# Altium footprint library QFN_.PcbLib: 16 footprints
Each footprint in its own frame and in the unit in brackets; x right, y up, seen from the top. Pads: shape width x height; smd on the part's side, far side on the other; paste and mask are expansions set on the pad; w line width, h text height; cw(c..) or ccw(c..) is an arc to the next point about the centre after c.
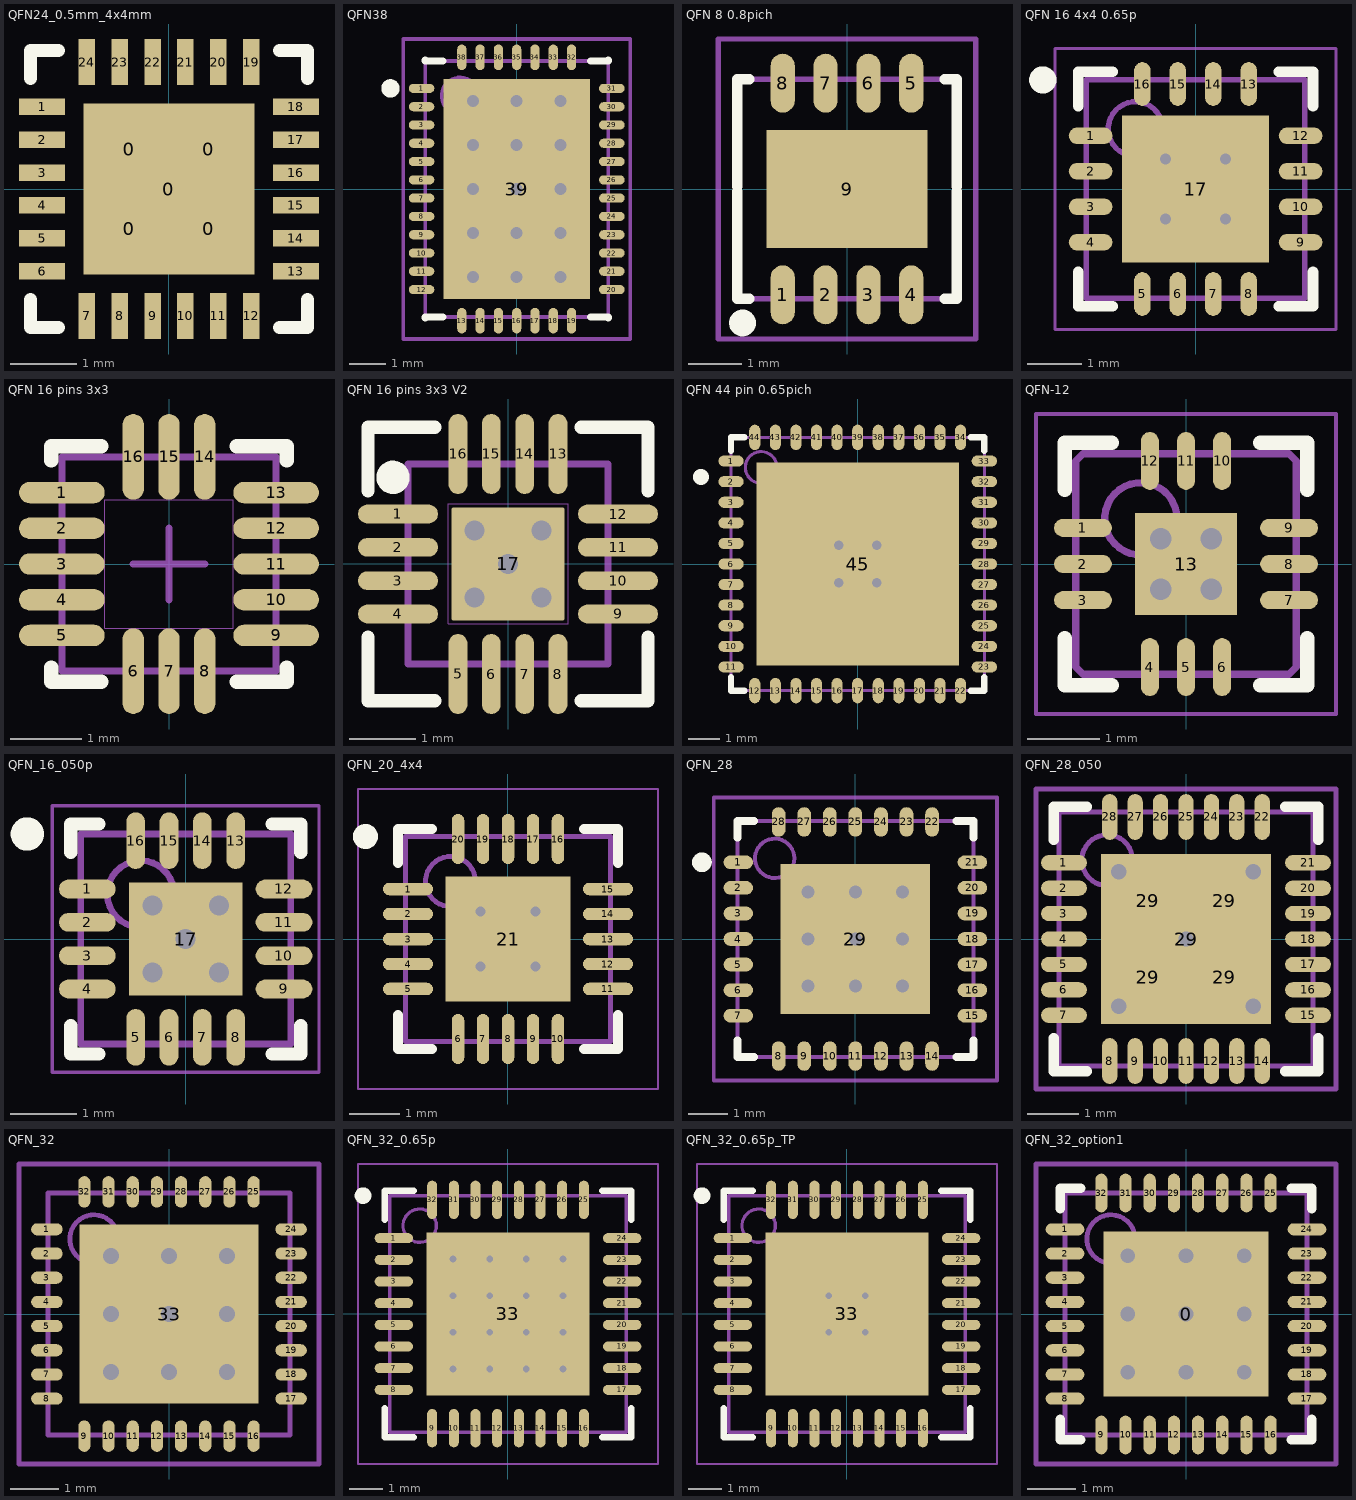
[diagram p0: the footprints below, top view; thin cyan lines are the x and y axes]

## QFN24_0.5mm_4x4mm [mm]
pads (29):
  rect 1x1 smd: 0(-0.6,-0.6) 0(-0.6,0.6) 0(0.6,-0.6) 0(0.6,0.6)
  rect 2.6x2.6 smd paste-4: 0(0,0)
  rect 0.7x0.25 smd: 1(-1.925,1.25) 2(-1.925,0.75) 3(-1.925,0.25) 4(-1.925,-0.25) 5(-1.925,-0.75) 6(-1.925,-1.25) 13(1.925,-1.25) 14(1.925,-0.75) 15(1.925,-0.25) 16(1.925,0.25) 17(1.925,0.75) 18(1.925,1.25)
  rect 0.25x0.7 smd: 7(-1.25,-1.925) 8(-0.75,-1.925) 9(-0.25,-1.925) 10(0.25,-1.925) 11(0.75,-1.925) 12(1.25,-1.925) 19(1.25,1.925) 20(0.75,1.925) 21(0.25,1.925) 22(-0.25,1.925) 23(-0.75,1.925) 24(-1.25,1.925)
Top Overlay:
  lines w0.2: -2.1,-1.675 -2.1,-2.1 -1.675,-2.1 ; -2.1,1.675 -2.1,2.1 -1.675,2.1 ; 1.675,-2.1 2.1,-2.1 2.1,-1.675 ; 1.675,2.1 2.1,2.1 2.1,1.675
3D body: height 0.9, standoff 0, extent -2,-2 2,2

## QFN38 [mm] "QFN, 38-Leads, Body 7,0x5,0mm (max), Pitch 0,50mm, IPC Medium Density"
height 0.75
pads (39):
  oval 0.7x0.25 smd: 1(-2.6,2.75) 2(-2.6,2.25) 3(-2.6,1.75) 4(-2.6,1.25) 5(-2.6,0.75) 6(-2.6,0.25) 7(-2.6,-0.25) 8(-2.6,-0.75) 9(-2.6,-1.25) 10(-2.6,-1.75) 11(-2.6,-2.25) 12(-2.6,-2.75) 20(2.6,-2.75) 21(2.6,-2.25) 22(2.6,-1.75) 23(2.6,-1.25) 24(2.6,-0.75) 25(2.6,-0.25) 26(2.6,0.25) 27(2.6,0.75) 28(2.6,1.25) 29(2.6,1.75) 30(2.6,2.25) 31(2.6,2.75)
  oval 0.25x0.7 smd: 13(-1.5,-3.6) 14(-1,-3.6) 15(-0.5,-3.6) 16(0,-3.6) 17(0.5,-3.6) 18(1,-3.6) 19(1.5,-3.6) 32(1.5,3.6) 33(1,3.6) 34(0.5,3.6) 35(0,3.6) 36(-0.5,3.6) 37(-1,3.6) 38(-1.5,3.6)
  rect 4x6 smd: 39(0,0)
via 1.2,-2.4 diameter 0.66 hole 0.33
via 0,-2.4 diameter 0.66 hole 0.33
via -1.2,-2.4 diameter 0.66 hole 0.33
via 1.2,-1.2 diameter 0.66 hole 0.33
via 0,-1.2 diameter 0.66 hole 0.33
via -1.2,-1.2 diameter 0.66 hole 0.33
via 1.2,0 diameter 0.66 hole 0.33
via 0,0 diameter 0.66 hole 0.33
via -1.2,0 diameter 0.66 hole 0.33
via 1.2,1.2 diameter 0.66 hole 0.33
via 0,1.2 diameter 0.66 hole 0.33
via -1.2,1.2 diameter 0.66 hole 0.33
via 1.2,2.4 diameter 0.66 hole 0.33
via 0,2.4 diameter 0.66 hole 0.33
via -1.2,2.4 diameter 0.66 hole 0.33
Top Overlay:
  circle w0.25: c-3.45,2.75 r0.125
  lines w0.2: -2.5,-3.525 -2.5,-3.5 -2.025,-3.5 ; -2.5,3.525 -2.5,3.5 -2.025,3.5 ; 2.025,-3.5 2.5,-3.5 2.5,-3.525 ; 2.025,3.5 2.5,3.5 2.5,3.525
Mechanical 13:
  circle w0.1: c-1.55,2.55 r0.5
  lines w0.1: -2.5,-3.5 2.5,-3.5 2.5,3.5 -2.5,3.5 -2.5,-3.5
Mechanical 15:
  lines w0.1: -0.5,0 0.5,0 ; 0,-0.5 0,0.5 ; -3.1,-4.1 3.1,-4.1 3.1,4.1 -3.1,4.1 -3.1,-4.1
3D body: height 1.04, standoff -0.09, extent -2.5,-3.51 2.52,3.51

## QFN 8 0.8pich [mm]
height 0.8
pads (9):
  oval 0.45x1.1 smd: 1(-1.2,-1.975) 2(-0.4,-1.975) 3(0.4,-1.975) 4(1.2,-1.975) 5(1.2,1.975) 6(0.4,1.975) 7(-0.4,1.975) 8(-1.2,1.975)
  rect 3x2.2 smd paste-2: 9(0,0)
Top Overlay:
  circle w0.25: c-1.95,-2.5 r0.125
  lines w0.2: -2.05,-0.05 -2.05,-2.05 -1.825,-2.05 ; -2.05,0.05 -2.05,2.05 -1.825,2.05 ; 1.825,-2.05 2.05,-2.05 2.05,-0.05 ; 1.825,2.05 2.05,2.05 2.05,0.05
Top Paste:
  region: -0.15,1.05 -1.45,1.05 -1.45,0.15 -0.15,0.15
  rectangle: 0.15,0.15 1.45,1.05
  region: -0.15,-0.15 -1.45,-0.15 -1.45,-1.05 -0.15,-1.05
  rectangle: 0.15,-1.05 1.45,-0.15
Mechanical 13:
  circle w0.1: c-1.15,-0.65 r0.25
  lines w0.1: -2.05,-2.05 2.05,-2.05 2.05,2.05 -2.05,2.05 -2.05,-2.05
Mechanical 15:
  lines w0.1: -0.5,0 0.5,0 ; 0,-0.5 0,0.5 ; -2.4,-2.8 2.4,-2.8 2.4,2.8 -2.4,2.8 -2.4,-2.8
3D body: height 0.8, standoff 0, extent -2.05,-2.08 2.05,2.08

## QFN 16 4x4 0.65p [mm] "QFN 16 4x4 0.65p"
height 0.8
pads (17):
  oval 0.8x0.3 smd: 1(-1.925,0.975) 2(-1.925,0.325) 3(-1.925,-0.325) 4(-1.925,-0.975) 9(1.925,-0.975) 10(1.925,-0.325) 11(1.925,0.325) 12(1.925,0.975)
  oval 0.3x0.8 smd: 5(-0.975,-1.925) 6(-0.325,-1.925) 7(0.325,-1.925) 8(0.975,-1.925) 13(0.975,1.925) 14(0.325,1.925) 15(-0.325,1.925) 16(-0.975,1.925)
  rect 2.7x2.7 smd: 17(0,0)
via -0.55,0.55 diameter 0.5 hole 0.2
via 0.55,0.55 diameter 0.5 hole 0.2
via -0.55,-0.55 diameter 0.5 hole 0.2
via 0.55,-0.55 diameter 0.5 hole 0.2
Top Overlay:
  circle w0.25: c-2.8,2 r0.125
  lines w0.2: -2.15,-1.525 -2.15,-2.15 -1.525,-2.15 ; -2.15,1.525 -2.15,2.15 -1.525,2.15 ; 1.525,-2.15 2.15,-2.15 2.15,-1.525 ; 1.525,2.15 2.15,2.15 2.15,1.525
Mechanical 13:
  circle w0.1: c-1.1,1.1 r0.5
  lines w0.1: -2,-2 -2,2 2,2 2,-2 -2,-2
Mechanical 15:
  lines w0.05: -2.575,-2.575 -2.575,2.575 2.575,2.575 2.575,-2.575 -2.575,-2.575
  lines w0.1: -0.5,0 0.5,0 ; 0,-0.5 0,0.5
3D body: height 0.92, standoff 0, extent -2,-2 2,2

## QFN 16 pins 3x3 [mm] "QFN 16 pins 3x3"
height 1
pads (16):
  oval 1.2x0.3 smd: 1(-1.5,1) 2(-1.5,0.5) 3(-1.5,0) 4(-1.5,-0.5) 5(-1.5,-1) 9(1.5,-1) 10(1.5,-0.5) 11(1.5,0) 12(1.5,0.5) 13(1.5,1)
  oval 0.3x1.2 smd: 6(-0.5,-1.5) 7(0,-1.5) 8(0.5,-1.5) 14(0.5,1.5) 15(0,1.5) 16(-0.5,1.5)
Top Overlay:
  lines w0.2: -1.65,-1.45 -1.65,-1.65 -0.95,-1.65 ; -1.65,1.45 -1.65,1.65 -0.95,1.65 ; 0.95,-1.65 1.65,-1.65 1.65,-1.45 ; 0.95,1.65 1.65,1.65 1.65,1.45
Mechanical 13:
  lines w0.1: -1.5,-1.5 -1.5,1.5 1.5,1.5 1.5,-1.5 -1.5,-1.5
Mechanical 15:
  lines w0.01: -0.9,-0.9 -0.9,0.9 0.9,0.9 0.9,-0.9 -0.9,-0.9
  lines w0.1: -0.5,0 0.5,0 ; 0,-0.5 0,0.5
3D body: height 1.05, standoff 0, extent -1.5,-1.5 1.5,1.5

## QFN 16 pins 3x3 V2 [mm] "QFN 16 pins 3x3 V2"
height 1
pads (17):
  oval 1.2x0.28 smd: 1(-1.65,0.75) 2(-1.65,0.25) 3(-1.65,-0.25) 4(-1.65,-0.75) 9(1.65,-0.75) 10(1.65,-0.25) 11(1.65,0.25) 12(1.65,0.75)
  oval 0.28x1.2 smd: 5(-0.75,-1.65) 6(-0.25,-1.65) 7(0.25,-1.65) 8(0.75,-1.65) 13(0.75,1.65) 14(0.25,1.65) 15(-0.25,1.65) 16(-0.75,1.65)
  rrect5% 1.7x1.7 smd paste-2: 17(0,0)
via -0.5,-0.5 diameter 0.3 hole 0.3
via 0.5,-0.5 diameter 0.3 hole 0.3
via 0.5,0.5 diameter 0.3 hole 0.3
via -0.5,0.5 diameter 0.3 hole 0.3
via 0,0 diameter 0.3 hole 0.3
Top Overlay:
  circle w0.25: c-1.725,1.3 r0.125
  lines w0.2: -2.1,-1.1 -2.1,-2.05 -1.1,-2.05 ; -2.1,1.1 -2.1,2.05 -1.1,2.05 ; 1.1,-2.05 2.1,-2.05 2.1,-1.1 ; 1.1,2.05 2.1,2.05 2.1,1.1
Mechanical 13:
  lines w0.1: -1.5,-1.5 1.5,-1.5 1.5,1.5 -1.5,1.5 -1.5,-1.5
Mechanical 15:
  lines w0.01: -0.9,-0.9 0.9,-0.9 0.9,0.9 -0.9,0.9 -0.9,-0.9
  lines w0.1: -0.5,0 0.5,0 ; 0,-0.5 0,0.5
3D body: height 0.9, standoff 0, extent -1.501,-1.501 1.501,1.501

## QFN 44 pin 0.65pich [mm] "QFN 44 pin 0.65pich"
height 1
pads (53):
  oval 0.8x0.35 smd: 1(-4,3.25) 2(-4,2.6) 3(-4,1.95) 4(-4,1.3) 5(-4,0.65) 6(-4,0) 7(-4,-0.65) 8(-4,-1.3) 9(-4,-1.95) 10(-4,-2.6) 11(-4,-3.25) 23(4,-3.25) 24(4,-2.6) 25(4,-1.95) 26(4,-1.3) 27(4,-0.65) 28(4,0) 29(4,0.65) 30(4,1.3) 31(4,1.95) 32(4,2.6) 33(4,3.25)
  oval 0.35x0.8 smd: 12(-3.25,-4) 13(-2.6,-4) 14(-1.95,-4) 15(-1.3,-4) 16(-0.65,-4) 17(0,-4) 18(0.65,-4) 19(1.3,-4) 20(1.95,-4) 21(2.6,-4) 22(3.25,-4) 34(3.25,4) 35(2.6,4) 36(1.95,4) 37(1.3,4) 38(0.65,4) 39(0,4) 40(-0.65,4) 41(-1.3,4) 42(-1.95,4) 43(-2.6,4) 44(-3.25,4)
  rect 0x0 smd: 45(-0.85,0) 46(-0.35,0) 47(0,0.85) 48(0,0.35) 49(0.85,0) 50(0.35,0) 51(0,-0.85) 52(0,-0.35)
  rect 6.4x6.4 smd: 45(0,0)
via -0.6,0.6 diameter 0.66 hole 0.3
via 0.6,0.6 diameter 0.66 hole 0.3
via -0.6,-0.6 diameter 0.66 hole 0.3
via 0.6,-0.6 diameter 0.66 hole 0.3
Top Overlay:
  circle w0.25: c-4.95,2.75 r0.125
  lines w0.2: -4,-3.575 -4,-4 -3.575,-4 ; -4,3.575 -4,4 -3.575,4 ; 3.575,-4 4,-4 4,-3.575 ; 3.575,4 4,4 4,3.575
Mechanical 13:
  circle w0.1: c-3.05,3.05 r0.5
  lines w0.1: -4,-4 -4,4 4,4 4,-4 -4,-4
Mechanical 15:
  lines w0.1: -0.5,0 0.5,0 ; 0,-0.5 0,0.5 ; -2.75,-2.75 -2.75,2.75 2.75,2.75 2.75,-2.75 -2.75,-2.75
3D body: height 0.9, standoff 0, extent -4,-4 4,4

## QFN-12 [mm] "QFN, 12-Leads, Body 3,00x3,00mm, Pitch 0,50mm, Thermal Pad 1,41x1,41mm, IPC Medium Density"
height 0.7
pads (13):
  oval 0.8x0.25 smd: 1(-1.425,0.5) 2(-1.425,0) 3(-1.425,-0.5) 7(1.425,-0.5) 8(1.425,0) 9(1.425,0.5)
  oval 0.25x0.8 smd: 4(-0.5,-1.425) 5(0,-1.425) 6(0.5,-1.425) 10(0.5,1.425) 11(0,1.425) 12(-0.5,1.425)
  rect 1.41x1.41 smd: 13(0,0)
via -0.35,0.35 diameter 0.7 hole 0.3
via 0.35,0.35 diameter 0.7 hole 0.3
via -0.35,-0.35 diameter 0.7 hole 0.3
via 0.35,-0.35 diameter 0.7 hole 0.3
Top Overlay:
  lines w0.2: -1.675,-1.025 -1.675,-1.675 -1.025,-1.675 ; -1.675,1.025 -1.675,1.675 -1.025,1.675 ; 1.025,-1.675 1.675,-1.675 1.675,-1.025 ; 1.025,1.675 1.675,1.675 1.675,1.025
Mechanical 13:
  circle w0.1: c-0.625,0.625 r0.5
  lines w0.1: -1.525,-1.425 -1.425,-1.525 1.425,-1.525 1.525,-1.425 1.525,1.425 1.425,1.525 -1.425,1.525 -1.525,1.425 -1.525,-1.425
Mechanical 15:
  lines w0.05: -2.075,-2.075 -2.075,2.075 2.075,2.075 2.075,-2.075 -2.075,-2.075
  lines w0.1: -0.5,0 0.5,0 ; 0,-0.5 0,0.5
3D body: height 0.7, standoff 0.01, extent -1.525,-1.525 1.525,1.525

## QFN_16_050p [mm] "QFN, 16-Leads, Body 3x3mm, Pitch 0.5mm, Thermal Pad 1.7x1.7mm, TI Recommended"
height 1
pads (17):
  oval 0.85x0.28 smd paste-0.025 mask+0.07: 1(-1.475,0.75) 2(-1.475,0.25) 3(-1.475,-0.25) 4(-1.475,-0.75) 9(1.475,-0.75) 10(1.475,-0.25) 11(1.475,0.25) 12(1.475,0.75)
  oval 0.28x0.85 smd paste-0.025 mask+0.07: 5(-0.75,-1.475) 6(-0.25,-1.475) 7(0.25,-1.475) 8(0.75,-1.475) 13(0.75,1.475) 14(0.25,1.475) 15(-0.25,1.475) 16(-0.75,1.475)
  rect 1.7x1.7 smd paste-0.85 mask+0.07: 17(0,0)
via 0,0 diameter 0.5 hole 0.3
via 0.5,0.5 diameter 0.5 hole 0.3
via 0.5,-0.5 diameter 0.5 hole 0.3
via -0.5,-0.5 diameter 0.5 hole 0.3
via -0.5,0.5 diameter 0.5 hole 0.3
Top Overlay:
  circle w0.25: c-2.375,1.575 r0.125
  lines w0.2: -1.725,-1.3 -1.725,-1.725 -1.3,-1.725 ; -1.725,1.3 -1.725,1.725 -1.3,1.725 ; 1.3,-1.725 1.725,-1.725 1.725,-1.3 ; 1.3,1.725 1.725,1.725 1.725,1.3
Top Paste:
  rectangle: 0.1,0.1 0.8,0.8
  region: 0.1,-0.1 0.1,-0.8 0.8,-0.8 0.8,-0.1
  region: -0.1,-0.1 -0.8,-0.1 -0.8,-0.8 -0.1,-0.8
  region: -0.1,0.1 -0.1,0.8 -0.8,0.8 -0.8,0.1
Mechanical 13:
  circle w0.1: c-0.675,0.675 r0.5
  lines w0.1: -1.575,-1.575 1.575,-1.575 1.575,1.575 -1.575,1.575 -1.575,-1.575
Mechanical 15:
  lines w0.05: -2,-2 2,-2 2,2 -2,2 -2,-2
  lines w0.1: -0.5,0 0.5,0 ; 0,-0.5 0,0.5
3D body: height 0.9, standoff 0, extent -1.501,-1.501 1.501,1.501

## QFN_20_4x4 [mm] "QFN, 20-Leads, Body 4x4mm, Pitch 0.5mm, Thermal Pad 2.5x2.5mm, IPC Low Density"
height 1
pads (21):
  oval 1x0.25 smd: 1(-2,1) 2(-2,0.5) 3(-2,0) 4(-2,-0.5) 5(-2,-1) 11(2,-1) 12(2,-0.5) 13(2,0) 14(2,0.5) 15(2,1)
  oval 0.25x1 smd: 6(-1,-2) 7(-0.5,-2) 8(0,-2) 9(0.5,-2) 10(1,-2) 16(1,2) 17(0.5,2) 18(0,2) 19(-0.5,2) 20(-1,2)
  rect 2.5x2.5 smd: 21(0,0)
via 0.55,-0.55 diameter 0.5 hole 0.2
via -0.55,-0.55 diameter 0.5 hole 0.2
via 0.55,0.55 diameter 0.5 hole 0.2
via -0.55,0.55 diameter 0.5 hole 0.2
Top Overlay:
  circle w0.25: c-2.85,2.05 r0.125
  lines w0.2: -2.2,-1.525 -2.2,-2.2 -1.525,-2.2 ; -2.2,1.525 -2.2,2.2 -1.525,2.2 ; 1.525,-2.2 2.2,-2.2 2.2,-1.525 ; 1.525,2.2 2.2,2.2 2.2,1.525
Mechanical 13:
  circle w0.1: c-1.15,1.15 r0.5
  lines w0.1: -2.05,-2.05 2.05,-2.05 2.05,2.05 -2.05,2.05 -2.05,-2.05
Mechanical 15:
  lines w0.05: -3,-3 3,-3 3,3 -3,3 -3,-3
  lines w0.1: -0.5,0 0.5,0 ; 0,-0.5 0,0.5
3D body: height 0.92, standoff 0, extent -2,-2 2,2

## QFN_28 [mm] "QFN, 28-Leads, Body 6 x 6mm (max), Pitch 0,65mm"
height 0.9
pads (29):
  oval 0.75x0.35 smd: 1(-2.975,1.95) 2(-2.975,1.3) 3(-2.975,0.65) 4(-2.975,0) 5(-2.975,-0.65) 6(-2.975,-1.3) 7(-2.975,-1.95) 15(2.975,-1.95) 16(2.975,-1.3) 17(2.975,-0.65) 18(2.975,0) 19(2.975,0.65) 20(2.975,1.3) 21(2.975,1.95)
  oval 0.35x0.75 smd: 8(-1.95,-2.975) 9(-1.3,-2.975) 10(-0.65,-2.975) 11(0,-2.975) 12(0.65,-2.975) 13(1.3,-2.975) 14(1.95,-2.975) 22(1.95,2.975) 23(1.3,2.975) 24(0.65,2.975) 25(0,2.975) 26(-0.65,2.975) 27(-1.3,2.975) 28(-1.95,2.975)
  rect 3.8x3.8 smd: 29(0,0)
via -1.2,1.2 diameter 0.66 hole 0.33
via 0,1.2 diameter 0.66 hole 0.33
via 1.2,1.2 diameter 0.66 hole 0.33
via -1.2,0 diameter 0.66 hole 0.33
via 0,0 diameter 0.66 hole 0.33
via 1.2,0 diameter 0.66 hole 0.33
via -1.2,-1.2 diameter 0.66 hole 0.33
via 0,-1.2 diameter 0.66 hole 0.33
via 1.2,-1.2 diameter 0.66 hole 0.33
Top Overlay:
  circle w0.25: c-3.9,1.95 r0.125
  lines w0.2: -3,-2.575 -3,-3 -2.575,-3 ; -3,2.575 -3,3 -2.575,3 ; 2.575,-3 3,-3 3,-2.575 ; 2.575,3 3,3 3,2.575
Mechanical 13:
  circle w0.1: c-2.05,2.05 r0.5
  lines w0.1: -3,-3 -3,3 3,3 3,-3 -3,-3
Mechanical 15:
  lines w0.1: -0.5,0 0.5,0 ; 0,-0.5 0,0.5 ; -3.6,-3.6 -3.6,3.6 3.6,3.6 3.6,-3.6 -3.6,-3.6
3D body: height 0.9, standoff 0.02, extent -3,-3 3,3
3D body: height 1.02, standoff -0.08, extent -3,-3 3,3

## QFN_28_050 [mm] "QFN_28_050"
height 1
pads (33):
  oval 0.9x0.3 smd: 1(-2.4,1.5) 2(-2.4,1) 3(-2.4,0.5) 4(-2.4,0) 5(-2.4,-0.5) 6(-2.4,-1) 7(-2.4,-1.5) 15(2.4,-1.5) 16(2.4,-1) 17(2.4,-0.5) 18(2.4,0) 19(2.4,0.5) 20(2.4,1) 21(2.4,1.5)
  oval 0.3x0.9 smd: 8(-1.5,-2.4) 9(-1,-2.4) 10(-0.5,-2.4) 11(0,-2.4) 12(0.5,-2.4) 13(1,-2.4) 14(1.5,-2.4) 22(1.5,2.4) 23(1,2.4) 24(0.5,2.4) 25(0,2.4) 26(-0.5,2.4) 27(-1,2.4) 28(-1.5,2.4)
  rrect20% 1.2x1.2 smd: 29(-0.75,-0.75) 29(-0.75,0.75) 29(0.75,-0.75) 29(0.75,0.75)
  rect 3.35x3.35 smd paste-2: 29(0,0)
via 1.325,1.325 diameter 0.7 hole 0.3
via 1.325,-1.325 diameter 0.7 hole 0.3
via -1.325,-1.325 diameter 0.7 hole 0.3
via -1.325,1.325 diameter 0.7 hole 0.3
via 0,0 diameter 0.7 hole 0.3
Top Overlay:
  lines w0.2: -2.6,-1.95 -2.6,-2.6 -1.95,-2.6 ; -2.6,1.95 -2.6,2.6 -1.95,2.6 ; 1.95,-2.6 2.6,-2.6 2.6,-1.95 ; 1.95,2.6 2.6,2.6 2.6,1.95
Mechanical 13:
  circle w0.1: c-1.55,1.55 r0.5
  lines w0.1: -2.5,-2.5 -2.5,2.5 2.5,2.5 2.5,-2.5 -2.5,-2.5
Mechanical 15:
  lines w0.1: -0.5,0 0.5,0 ; 0,-0.5 0,0.5 ; -2.95,-2.95 -2.95,2.95 2.95,2.95 2.95,-2.95 -2.95,-2.95
3D body: height 0.9, standoff 0, extent -2.52,-2.52 2.52,2.52

## QFN_32 [mm] "QFN, 32-Leads, Body 5,0x5,0mm (max), Pitch 0,50mm"
height 0.75
pads (33):
  oval 0.65x0.25 smd: 1(-2.525,1.75) 2(-2.525,1.25) 3(-2.525,0.75) 4(-2.525,0.25) 5(-2.525,-0.25) 6(-2.525,-0.75) 7(-2.525,-1.25) 8(-2.525,-1.75) 17(2.525,-1.75) 18(2.525,-1.25) 19(2.525,-0.75) 20(2.525,-0.25) 21(2.525,0.25) 22(2.525,0.75) 23(2.525,1.25) 24(2.525,1.75)
  oval 0.25x0.65 smd: 9(-1.75,-2.525) 10(-1.25,-2.525) 11(-0.75,-2.525) 12(-0.25,-2.525) 13(0.25,-2.525) 14(0.75,-2.525) 15(1.25,-2.525) 16(1.75,-2.525) 25(1.75,2.525) 26(1.25,2.525) 27(0.75,2.525) 28(0.25,2.525) 29(-0.25,2.525) 30(-0.75,2.525) 31(-1.25,2.525) 32(-1.75,2.525)
  rect 3.7x3.7 smd: 33(0,0)
via -1.2,1.2 diameter 0.66 hole 0.33
via 0,1.2 diameter 0.66 hole 0.33
via 1.2,1.2 diameter 0.66 hole 0.33
via -1.2,0 diameter 0.66 hole 0.33
via 0,0 diameter 0.66 hole 0.33
via 1.2,0 diameter 0.66 hole 0.33
via -1.2,-1.2 diameter 0.66 hole 0.33
via 0,-1.2 diameter 0.66 hole 0.33
via 1.2,-1.2 diameter 0.66 hole 0.33
Mechanical 13:
  circle w0.1: c-1.55,1.55 r0.5
  lines w0.1: -2.5,-2.5 -2.5,2.5 2.5,2.5 2.5,-2.5 -2.5,-2.5
Mechanical 15:
  lines w0.1: -0.5,0 0.5,0 ; 0,-0.5 0,0.5 ; -3.1,-3.1 -3.1,3.1 3.1,3.1 3.1,-3.1 -3.1,-3.1
3D body: height 0.7, standoff -0.05, extent -2.503,-2.46 2.503,2.54

## QFN_32_0.65p [mm] "QFN, 32-Leads, Body 7x7mm, Pitch 0.65mm, Thermal Pad 4.9x4.9mm, IPC Low Density"
height 1
pads (33):
  oval 1.15x0.3 smd: 1(-3.425,2.275) 2(-3.425,1.625) 3(-3.425,0.975) 4(-3.425,0.325) 5(-3.425,-0.325) 6(-3.425,-0.975) 7(-3.425,-1.625) 8(-3.425,-2.275) 17(3.425,-2.275) 18(3.425,-1.625) 19(3.425,-0.975) 20(3.425,-0.325) 21(3.425,0.325) 22(3.425,0.975) 23(3.425,1.625) 24(3.425,2.275)
  oval 0.3x1.15 smd: 9(-2.275,-3.425) 10(-1.625,-3.425) 11(-0.975,-3.425) 12(-0.325,-3.425) 13(0.325,-3.425) 14(0.975,-3.425) 15(1.625,-3.425) 16(2.275,-3.425) 25(2.275,3.425) 26(1.625,3.425) 27(0.975,3.425) 28(0.325,3.425) 29(-0.325,3.425) 30(-0.975,3.425) 31(-1.625,3.425) 32(-2.275,3.425)
  rect 4.9x4.9 smd: 33(0,0)
via 1.65,-1.65 diameter 0.5 hole 0.2
via 0.55,-1.65 diameter 0.5 hole 0.2
via -0.55,-1.65 diameter 0.5 hole 0.2
via -1.65,-1.65 diameter 0.5 hole 0.2
via 1.65,-0.55 diameter 0.5 hole 0.2
via 0.55,-0.55 diameter 0.5 hole 0.2
via -0.55,-0.55 diameter 0.5 hole 0.2
via -1.65,-0.55 diameter 0.5 hole 0.2
via 1.65,0.55 diameter 0.5 hole 0.2
via 0.55,0.55 diameter 0.5 hole 0.2
via -0.55,0.55 diameter 0.5 hole 0.2
via -1.65,0.55 diameter 0.5 hole 0.2
via 1.65,1.65 diameter 0.5 hole 0.2
via 0.55,1.65 diameter 0.5 hole 0.2
via -0.55,1.65 diameter 0.5 hole 0.2
via -1.65,1.65 diameter 0.5 hole 0.2
Top Overlay:
  circle w0.25: c-4.35,3.55 r0.125
  lines w0.2: -3.7,-2.825 -3.7,-3.7 -2.825,-3.7 ; -3.7,2.825 -3.7,3.7 -2.825,3.7 ; 2.825,-3.7 3.7,-3.7 3.7,-2.825 ; 2.825,3.7 3.7,3.7 3.7,2.825
Mechanical 13:
  circle w0.1: c-2.65,2.65 r0.5
  lines w0.1: -3.55,-3.55 3.55,-3.55 3.55,3.55 -3.55,3.55 -3.55,-3.55
Mechanical 15:
  lines w0.05: -4.5,-4.5 4.5,-4.5 4.5,4.5 -4.5,4.5 -4.5,-4.5
  lines w0.1: -0.5,0 0.5,0 ; 0,-0.5 0,0.5
3D body: height 1.02, standoff -0.09, extent -3.5,-3.5 3.5,3.5

## QFN_32_0.65p_TP [mm] "QFN, 32-Leads, Body 7x7mm, Pitch 0.65mm, Thermal Pad 4.9x4.9mm, IPC Low Density"
height 1
pads (33):
  oval 1.15x0.3 smd: 1(-3.425,2.275) 2(-3.425,1.625) 3(-3.425,0.975) 4(-3.425,0.325) 5(-3.425,-0.325) 6(-3.425,-0.975) 7(-3.425,-1.625) 8(-3.425,-2.275) 17(3.425,-2.275) 18(3.425,-1.625) 19(3.425,-0.975) 20(3.425,-0.325) 21(3.425,0.325) 22(3.425,0.975) 23(3.425,1.625) 24(3.425,2.275)
  oval 0.3x1.15 smd: 9(-2.275,-3.425) 10(-1.625,-3.425) 11(-0.975,-3.425) 12(-0.325,-3.425) 13(0.325,-3.425) 14(0.975,-3.425) 15(1.625,-3.425) 16(2.275,-3.425) 25(2.275,3.425) 26(1.625,3.425) 27(0.975,3.425) 28(0.325,3.425) 29(-0.325,3.425) 30(-0.975,3.425) 31(-1.625,3.425) 32(-2.275,3.425)
  rect 4.9x4.9 smd: 33(0,0)
via -0.55,0.55 diameter 0.5 hole 0.2
via 0.55,0.55 diameter 0.5 hole 0.2
via -0.55,-0.55 diameter 0.5 hole 0.2
via 0.55,-0.55 diameter 0.5 hole 0.2
Top Overlay:
  circle w0.25: c-4.35,3.55 r0.125
  lines w0.2: -3.7,-2.825 -3.7,-3.7 -2.825,-3.7 ; -3.7,2.825 -3.7,3.7 -2.825,3.7 ; 2.825,-3.7 3.7,-3.7 3.7,-2.825 ; 2.825,3.7 3.7,3.7 3.7,2.825
Mechanical 13:
  circle w0.1: c-2.65,2.65 r0.5
  lines w0.1: -3.55,-3.55 -3.55,3.55 3.55,3.55 3.55,-3.55 -3.55,-3.55
Mechanical 15:
  lines w0.05: -4.5,-4.5 -4.5,4.5 4.5,4.5 4.5,-4.5 -4.5,-4.5
  lines w0.1: -0.5,0 0.5,0 ; 0,-0.5 0,0.5
3D body: height 1.02, standoff -0.09, extent -3.5,-3.5 3.5,3.5

## QFN_32_option1 [mm] "QFN, 32-Leads, Body 5,0x5,0mm (max), Pitch 0,50mm"
height 0.75
pads (33):
  rect 3.4x3.4 smd paste-2: 0(0,0)
  oval 0.8x0.25 smd: 1(-2.5,1.75) 2(-2.5,1.25) 3(-2.5,0.75) 4(-2.5,0.25) 5(-2.5,-0.25) 6(-2.5,-0.75) 7(-2.5,-1.25) 8(-2.5,-1.75) 17(2.5,-1.75) 18(2.5,-1.25) 19(2.5,-0.75) 20(2.5,-0.25) 21(2.5,0.25) 22(2.5,0.75) 23(2.5,1.25) 24(2.5,1.75)
  oval 0.25x0.8 smd: 9(-1.75,-2.5) 10(-1.25,-2.5) 11(-0.75,-2.5) 12(-0.25,-2.5) 13(0.25,-2.5) 14(0.75,-2.5) 15(1.25,-2.5) 16(1.75,-2.5) 25(1.75,2.5) 26(1.25,2.5) 27(0.75,2.5) 28(0.25,2.5) 29(-0.25,2.5) 30(-0.75,2.5) 31(-1.25,2.5) 32(-1.75,2.5)
via 1.2,-1.2 diameter 0.7 hole 0.3
via 0,-1.2 diameter 0.7 hole 0.3
via -1.2,-1.2 diameter 0.7 hole 0.3
via 1.2,0 diameter 0.7 hole 0.3
via 0,0 diameter 0.7 hole 0.3
via -1.2,0 diameter 0.7 hole 0.3
via 1.2,1.2 diameter 0.7 hole 0.3
via 0,1.2 diameter 0.7 hole 0.3
via -1.2,1.2 diameter 0.7 hole 0.3
Top Overlay:
  lines w0.2: -2.6,-2.175 -2.6,-2.6 -2.175,-2.6 ; -2.6,2.175 -2.6,2.6 -2.175,2.6 ; 2.175,-2.6 2.6,-2.6 2.6,-2.175 ; 2.175,2.6 2.6,2.6 2.6,2.175
Top Paste:
  rectangle: -0.45,-0.45 0.45,0.45
  rectangle: -0.45,0.65 0.45,1.55
  rectangle: 0.65,0.65 1.55,1.55
  rectangle: 0.65,-0.45 1.55,0.45
  rectangle: 0.65,-1.55 1.55,-0.65
  rectangle: -0.45,-1.55 0.45,-0.65
  rectangle: -1.55,-1.55 -0.65,-0.65
  rectangle: -1.55,-0.45 -0.65,0.45
  rectangle: -1.55,0.65 -0.65,1.55
Mechanical 13:
  circle w0.1: c-1.55,1.55 r0.5
  lines w0.1: -2.5,-2.5 2.5,-2.5 2.5,2.5 -2.5,2.5 -2.5,-2.5
Mechanical 15:
  lines w0.1: -0.5,0 0.5,0 ; 0,-0.5 0,0.5 ; -3.1,-3.1 3.1,-3.1 3.1,3.1 -3.1,3.1 -3.1,-3.1
3D body: height 0.7, standoff -0.05, extent -2.505,-2.5 2.5,2.5